# EAGLE library part RGB_MB85RS1MT (library AT SoM Carrier Board V0.3r2)
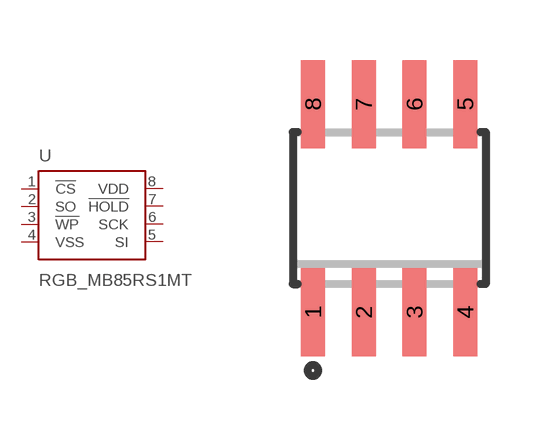
[diagram p4: symbol with the pads of RGB_SO08; footprint RGB_SO08]

Designator prefix U

## RGB_MB85RS1MT  [RGB_SO08]
1  !CS  out
2  SO  out
3  !WP  in
4  VSS  pwr
5  SI  out
6  SCK  in
7  !HOLD  out
8  VDD  pwr

## Footprint RGB_SO08 (pad centres in mm)
Small Outline Package 8 NS Package M08A
smd 0.6 x 2.2: 1 -1.905,-2.6; 2 -0.635,-2.6; 3 0.635,-2.6; 4 1.905,-2.6; 5 1.905,2.6; 6 0.635,2.6; 7 -0.635,2.6; 8 -1.905,2.6